# Altium footprint library usbinterface-pcblib.PcbLib: 6 footprints
Each footprint in its own frame and in the unit in brackets; x right, y up, seen from the top. Pads: shape width x height; smd on the part's side, far side on the other; paste and mask are expansions set on the pad; w line width, h text height; cw(c..) or ccw(c..) is an arc to the next point about the centre after c.
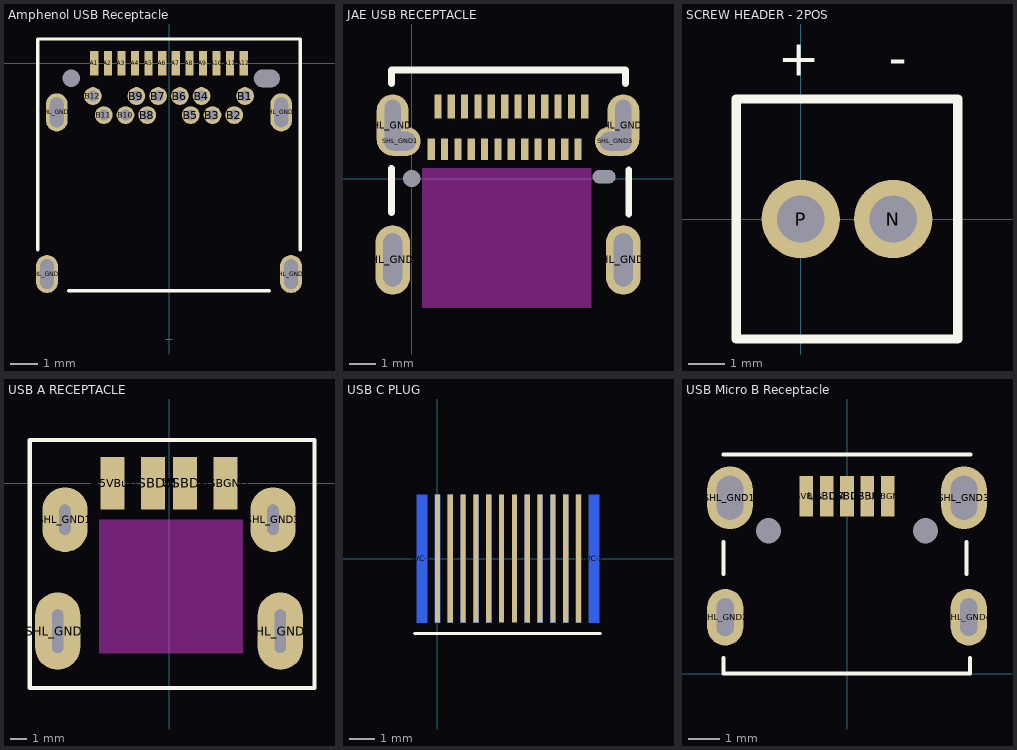
[diagram p0: the footprints below, top view; thin cyan lines are the x and y axes]

## Amphenol USB Receptacle [mm] "Amphenol 12401548E4#2A"
height 3.28
pads (30):
  rect 0.3x0.9 smd: A1(-2.75,0) A2(-2.25,0) A3(-1.75,0) A4(-1.25,0) A5(-0.75,0) A6(-0.25,0) A7(0.25,0) A8(0.75,0) A9(1.25,0) A10(1.75,0) A11(2.25,0) A12(2.75,0)
  round 0.654 hole 0.4: B1(2.8,-1.21) B2(2.4,-1.91) B3(1.6,-1.91) B4(1.2,-1.21) B5(0.8,-1.91) B6(0.4,-1.21) B7(-0.4,-1.21) B8(-0.8,-1.91) B9(-1.2,-1.21) B10(-1.6,-1.91) B11(-2.4,-1.91) B12(-2.8,-1.21)
  rect 0x0 hole 0.65 unplated: H1(-3.6,-0.56)
  rect 0x0 hole 0.65 slot 0.95 at 0 deg unplated: H2(3.6,-0.56)
  oval 0.8x1.4 hole 0.5 slot 1.1 at 90 deg: SHL_GND1(-4.13,-1.81) SHL_GND2(-4.49,-7.76) SHL_GND3(4.13,-1.81) SHL_GND4(4.49,-7.76)
Top Overlay:
  lines w0.127: -4.826,-6.858 -4.826,0.889 4.826,0.889 4.826,-6.858 ; -3.683,-8.382 3.683,-8.382
  text "." at -2.794,1.143 h1.27
Mechanical 1:
  lines w0.025: -0.127,-10.15 0.127,-10.15

## JAE USB RECEPTACLE [mm] "JAE DX07S024JJ2R1300"
height 3.14
pads (32):
  rect 0.27x0.9 smd: A1(0.975,2.7) A2(1.475,2.7) A3(1.975,2.7) A4(2.475,2.7) A5(2.975,2.7) A6(3.475,2.7) A7(3.975,2.7) A8(4.475,2.7) A9(4.975,2.7) A10(5.475,2.7) A11(5.975,2.7) A12(6.475,2.7)
  rect 0.27x0.8 smd: B1(6.225,1.1) B2(5.725,1.1) B3(5.225,1.1) B4(4.725,1.1) B5(4.225,1.1) B6(3.725,1.1) B7(3.225,1.1) B8(2.225,1.1) B9(2.725,1.1) B10(1.725,1.1) B11(1.225,1.1) B12(0.725,1.1)
  round 0 hole 0.65 unplated: H1(0,0)
  round 0 hole 0.5 slot 0.85 at 0 deg unplated: H2(7.2,0.065)
  oval 1.2x2.3 hole 0.6 slot 1.9 at 90 deg: SHL_GND1(-0.72,2) SHL_GND3(7.92,2)
  oval 1.524x1.1 hole 0.7 slot 1.168 at 0 deg: SHL_GND1(-0.432,1.397) SHL_GND3(7.62,1.397)
  oval 1.3x2.6 hole 0.7 slot 2 at 90 deg: SHL_GND2(-0.72,-3.05) SHL_GND4(7.92,-3.05)
Top Layer keep-out:
  rectangle: 0.381,-4.85 6.731,0.4
Top Overlay:
  lines w0.254: -0.762,-1.27 -0.762,0.381 ; -0.762,3.556 -0.762,4.064 8.001,4.064 8.001,3.556 ; 8.128,-1.333 8.128,0.318
  text "." at 0.889,3.556 h1.27

## SCREW HEADER - 2POS [mil] "On Shore Technology - OSTVN02A150"
height 334.65
pads (2):
  round 85 hole 51.18: N(100,0) P(0,0)
Top Overlay:
  lines w10: -70,-130 170,-130 170,130 -70,130 -70,-130
  text "+" at -25,155 h40
  text "-" at 95,155 h40

## USB A RECEPTACLE [mm] "TE CONNECTIVITY - 1932638-3"
height 7.09
pads (8):
  rect 1.5x3.25 smd: +5VBus(-3.5,0) USBDM(-1,0) USBDP(1,0) USBGND(3.5,0)
  oval 2.8x4 hole 0.7 slot 1.9 at 90 deg: SHL_GND1(-6.45,-2.27) SHL_GND3(6.45,-2.27)
  oval 2.8x4.8 hole 0.7 slot 2.7 at 90 deg: SHL_GND2(-6.9,-9.18) SHL_GND4(6.9,-9.18)
Top Layer keep-out:
  region: -4.318,-2.286 4.572,-2.286 4.572,-10.414 4.572,-10.541 4.445,-10.541 -4.318,-10.541
Top Overlay:
  lines w0.254: -8.636,-12.7 -8.636,2.667 9.017,2.667 9.017,-12.7 -8.636,-12.7
  text "." at -3.556,2.159 h0.51

## USB C PLUG [mm] "Amphenol 12401562E4#2A"
height 3
pads (24):
  rect 0.2x5 smd: A1(0,0) A2(0.5,0) A3(1,0) A4(1.5,0) A5(2,0) A6(2.5,0) A7(3,0) A8(3.5,0) A9(4,0) A10(4.5,0) A11(5,0) A12(5.5,0)
  rect 0.2x5 smd far side: B1(5.5,0) B2(5,0) B3(4.5,0) B4(4,0) B5(3.5,0) B8(2,0) B9(1.5,0) B10(1,0) B11(0.5,0) B12(0,0)
  rect 0.4x5 smd far side: N/C-1(-0.6,0) N/C-2(6.1,0)
Top Overlay:
  lines w0.127: -0.889,-2.921 6.35,-2.921 -0.889,-2.921
  text "." at -0.051,-3.327 h1.52

## USB Micro B Receptacle [mm] "Wurth Electronics Inc - 629105150521"
height 2.6
pads (11):
  rect 0.432x1.3 smd: +5VBus(-1.3,5.65) USBDM(-0.65,5.65) USBDP(0,5.65) USBGND(1.3,5.65) USBID(0.65,5.65)
  round 0 hole 0.8 unplated: H1(-2.5,4.55) H2(2.5,4.55)
  oval 1.45x2 hole 0.85 slot 1.4 at 90 deg: SHL_GND1(-3.725,5.6) SHL_GND3(3.725,5.6)
  oval 1.15x1.8 hole 0.55 slot 1.2 at 90 deg: SHL_GND2(-3.875,1.8) SHL_GND4(3.875,1.8)
Top Overlay:
  lines w0.127: -3.937,0.508 -3.937,0 3.912,0 3.912,0.508 ; -3.937,3.175 -3.937,4.191 ; -3.937,6.985 3.937,6.985 ; 3.81,3.175 3.81,4.191
  text "." at -1.397,6.604 h1.27